# EAGLE library part TXB0104 (library HyTechDevices-ltc4421 components)
Texas Instruments TXB0104 4-channel low voltage to high voltage Logic Level Shifter. Minimum input voltage level 1.8V. Maximum output voltage level 5.5V.
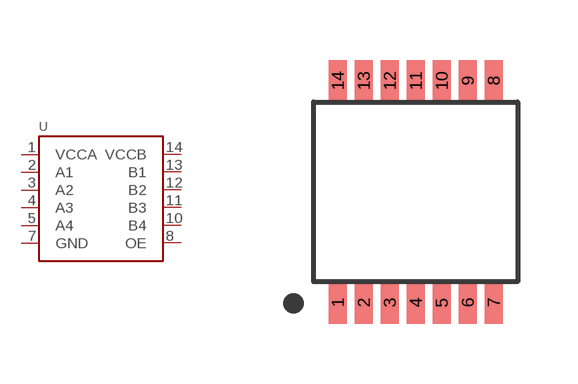
[diagram p8: symbol with the pads of TSSOP-14; footprint TSSOP-14]

Designator prefix -

## TXB0104TSSOP  [TSSOP-14]
1  VCCA  pwr
2  A1
3  A2
4  A3
5  A4
7  GND  pwr
8  OE  in
10  B4
11  B3
12  B2
13  B1
14  VCCB  pwr

## Footprint TSSOP-14 (pad centres in mm)
TSSOP 14 Datasheet <https://www.analog.com/media/en/package-pcb-resources/package/pkg_pdf/ltc-legacy-tssop/TSSOP_14_05-08-1650.pdf>
smd 0.45 x 1.05: 1 -1.95,-2.775; 2 -1.3,-2.775; 3 -0.65,-2.775; 4 0,-2.775; 5 0.65,-2.775; 6 1.3,-2.775; 7 1.95,-2.775; 8 1.95,2.775; 9 1.3,2.775; 10 0.65,2.775; 11 0,2.775; 12 -0.65,2.775; 13 -1.3,2.775; 14 -1.95,2.775